# Altium footprint library Ant.PcbLib: 32 footprints (part 2 of 2)
Each footprint in its own frame and in the unit in brackets; x right, y up, seen from the top. Pads: shape width x height; smd on the part's side, far side on the other; paste and mask are expansions set on the pad; w line width, h text height; cw(c..) or ccw(c..) is an arc to the next point about the centre after c.
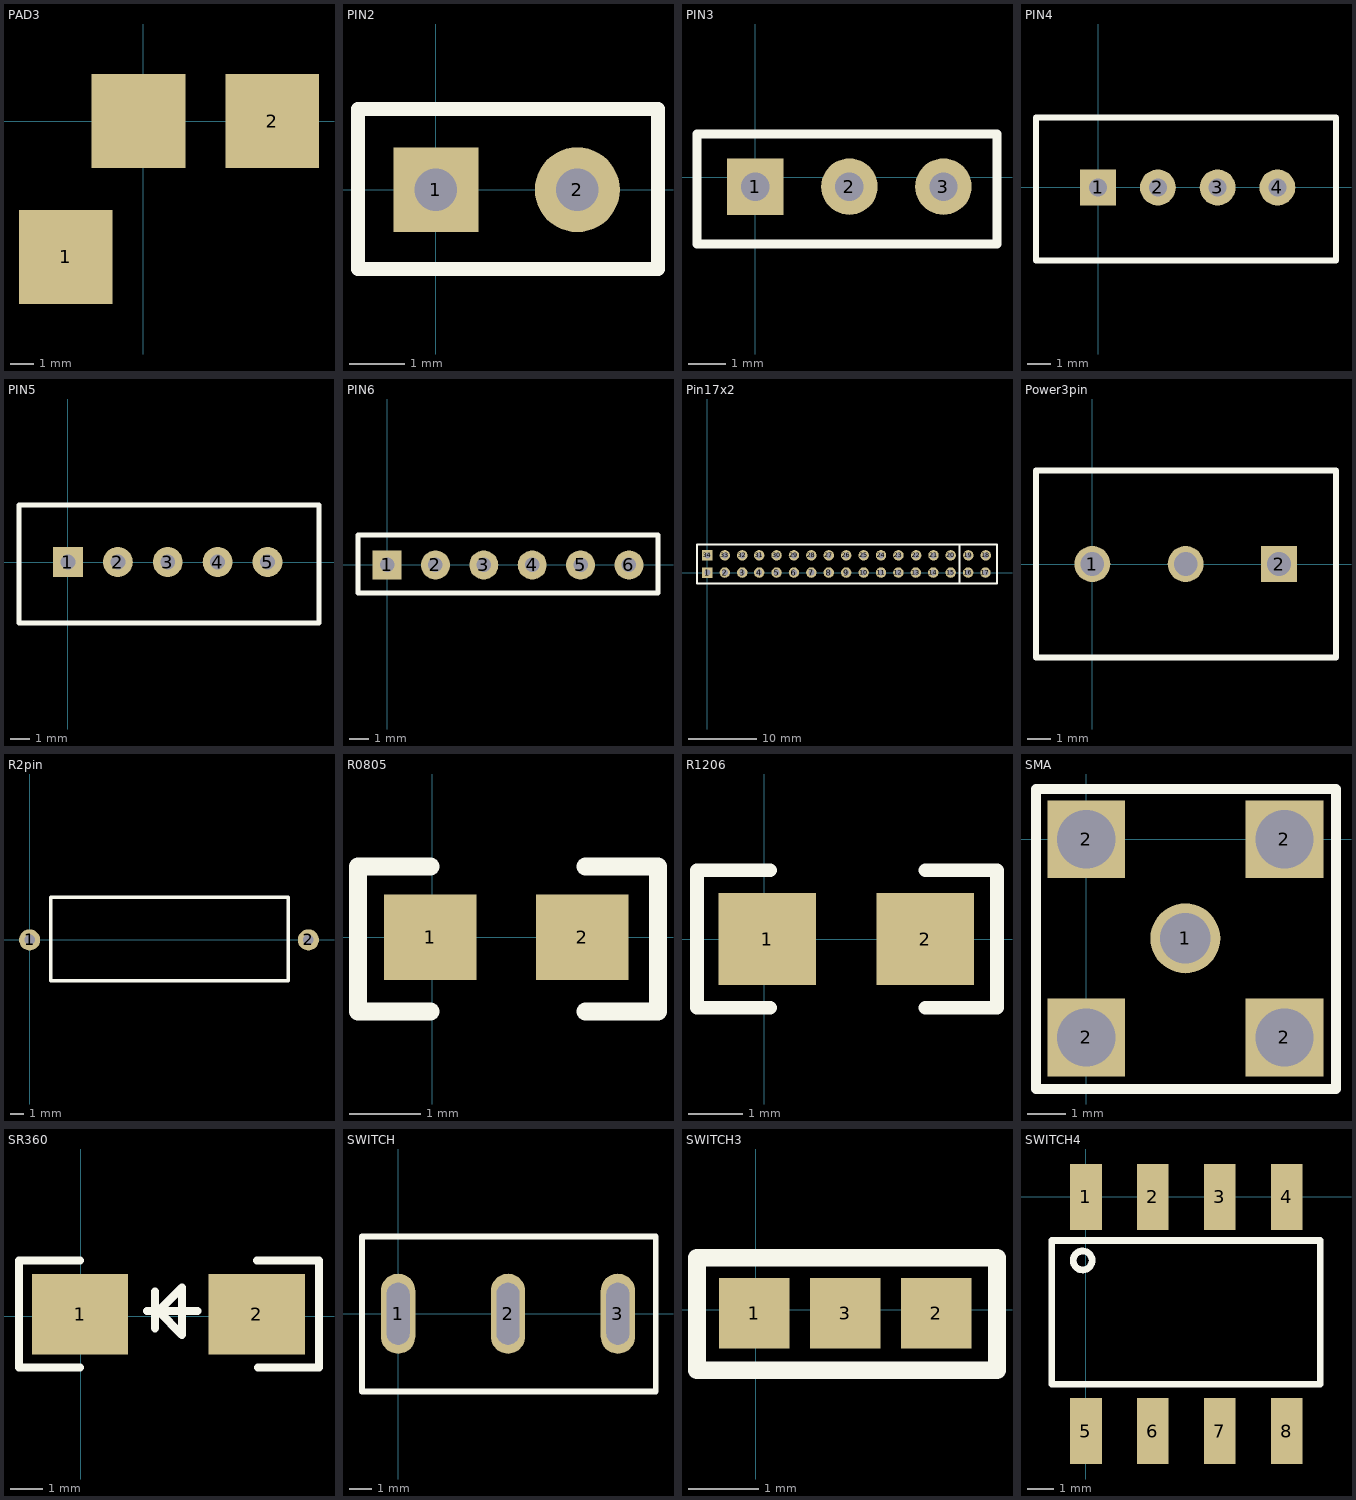
[diagram p1: the footprints below, top view; thin cyan lines are the x and y axes]

## PAD3 [mm]
pads (3):
  rect 4x4 smd: 1(-3.3,-5.8) 2(5.5,0) ""(-0.2,0)

## PIN2 [mil]
pads (2):
  rect 60x60 hole 30: 1(0,0)
  round 60 hole 30: 2(100,0)
Top Overlay:
  lines w10: -55,-56 157,-56 157,57 -55,57 -55,-56
3D body "HEADER 2.STEP": height 397.64, standoff -59.06, extent -49,-49 151,51

## PIN3 [mil]
pads (3):
  rect 60x60 hole 30: 1(0,-10)
  round 60 hole 30: 2(100,-10) 3(200,-10)
Top Overlay:
  lines w10: -62,-71 257,-71 257,46 -62,46 -62,-71
3D body "HEADER 3.STEP": height 397.64, standoff -59.06, extent -53,-63 247,37

## PIN4 [mil]
pads (4):
  rect 60x60 hole 30: 1(0,0)
  round 60 hole 30: 2(100,0) 3(200,0) 4(300,0)
Top Overlay:
  lines w10: -104,-122.05 398,-122.05 398,117 -104,117 -104,-122.05
3D body "CH2.54-4.STEP": height 275.59, standoff -133.86, extent -97.09,-127 391.09,113.16

## PIN5 [mil]
pads (5):
  rect 60x60 hole 30: 1(0,0)
  round 60 hole 30: 2(100,0) 3(200,0) 4(300,0) 5(400,0)
Top Overlay:
  lines w10: -98,-122.05 -98,114.17 503,114.17 503,-122.05 -98,-122.05
3D body "CH2.54-5.STEP": height 275.59, standoff -133.86, extent -91,-129.08 495.61,111.08

## PIN6 [mil]
pads (6):
  rect 60x60 hole 30: 1(0,0)
  round 60 hole 30: 2(100,0) 3(200,0) 4(300,0) 5(400,0) 6(500,0)
Top Overlay:
  lines w10: -60,-58 560,-58 560,62 -60,62 -60,-58
3D body "HEADER 6.STEP": height 397.64, standoff -59.06, extent -49,-48 551,52

## Pin17x2 [mm]
pads (34):
  rect 1.524x1.524 hole 0.85: 1(0,0) 34(0,2.5)
  round 1.524 hole 0.85: 2(2.54,0) 3(5.08,0) 4(7.54,0) 5(10.08,0) 6(12.62,0) 7(15.16,0) 8(17.7,0) 9(20.24,0) 10(22.78,0) 11(25.32,0) 12(27.86,0) 13(30.4,0) 14(32.94,0) 15(35.48,0) 16(38.02,0) 17(40.56,0) 18(40.6,2.5) 19(38.06,2.5) 20(35.48,2.5) 21(32.98,2.5) 22(30.44,2.5) 23(27.86,2.5) 24(25.32,2.5) 25(22.78,2.5) 26(20.24,2.5) 27(17.7,2.5) 28(15.16,2.5) 29(12.62,2.5) 30(10.08,2.5) 31(7.54,2.5) 32(5.08,2.5) 33(2.54,2.5)
Top Overlay:
  lines w0.254: 36.754,-1.575 36.754,4.064 ; -1.524,-1.6 -1.524,4.089 42.24,4.089 42.24,-1.6 -1.524,-1.6
3D body "HEADER 17X2.STEP": height 10.1, standoff -1.5, extent -1.245,-1.27 41.935,3.81

## Power3pin [mil]
pads (3):
  round 60 hole 39.37: 1(0,0) ""(155.91,0)
  rect 60x60 hole 39.37: 2(311.81,0)
Top Overlay:
  lines w10: -94,-155.91 407,-155.91 407,155.91 -94,155.91 -94,-155.91

## R2pin [mil]
pads (2):
  round 60 hole 30: 1(0,0) 2(787.4,0)
Top Overlay:
  lines w10: 60,120 60,-115 730,-115 730,120 60.71,120

## R0805 [mm]
pads (2):
  rect 1.3x1.2 smd: 1(-0.025,0) 2(2.108,0)
Top Overlay:
  lines w0.254: -0.025,-1.041 -1.041,-1.041 -1.041,0.991 -0.025,0.991 ; 2.159,-1.041 3.175,-1.041 3.175,0.991 2.159,0.991
3D body "电阻0805.STEP": height 0.76, standoff 0, extent -0.185,-0.649 2.115,0.701

## R1206 [mm]
pads (2):
  rect 1.8x1.7 smd: 1(0.051,0) 2(2.972,0)
Top Overlay:
  lines w0.254: 0.102,-1.27 -1.245,-1.27 -1.245,1.27 0.102,1.27 ; 2.972,-1.27 4.293,-1.27 4.293,1.27 2.972,1.27
3D body "RESC3216(1206).STEP": height 0.6, standoff 0, extent -0.025,-0.8 3.175,0.8

## SMA [mm]
pads (5):
  round 1.8 hole 1.3: 1(2.55,-2.55)
  rect 2x2 hole 1.5 square: 2(0,-5.1) 2(0,0) 2(5.1,-5.1) 2(5.1,0)
Top Overlay:
  lines w0.254: -1.295,-6.426 6.426,-6.426 6.426,1.295 -1.295,1.295 -1.295,-6.426

## SR360 [mm]
pads (2):
  rect 3x2.5 smd: 1(-0.025,0.051) 2(5.47,0.051)
Top Overlay:
  lines w0.254: -0.025,-1.597 -1.925,-1.597 -1.925,1.727 -0.025,1.727 ; 2.057,0.152 3.632,0.152 ; 2.286,0.152 2.413,0.152 ; 2.311,-0.381 2.311,0.762 ; 5.486,1.727 7.386,1.727 ; 5.512,-1.6 7.412,-1.6 7.412,1.724 ; 2.413,0.152 3.15,0.889 3.15,-0.584 2.413,0.152
3D body "DO214 SMA.STEP": height 1.14, standoff -1.14, extent -0.178,-1.422 5.309,1.372

## SWITCH [mm]
pads (3):
  oval 1.5x3.5 hole 1 slot 2.7 at 90 deg: 1(0,0) 2(4.8,0) 3(9.6,0)
Top Overlay:
  lines w0.254: -1.575,-3.404 -1.575,3.378 11.252,3.378 11.252,-3.404 -1.575,-3.404
3D body "SW-SLB12814.STEP": height 9.65, standoff -2.6, extent -2.25,-3.124 11.75,3.076

## SWITCH3 [mm]
pads (3):
  rect 1x1 smd: 1(-0.025,-0.051) 2(2.565,-0.051) 3(1.27,-0.051)
Top Overlay:
  lines w0.254: -0.838,-0.864 3.429,-0.864 3.429,0.737 -0.838,0.737 -0.838,-0.864

## SWITCH4 [mm]
pads (8):
  rect 1.2x2.5 smd: 1(0,0) 2(2.54,0) 3(5.08,0) 4(7.62,0) 5(0,-8.89) 6(2.54,-8.89) 7(5.08,-8.89) 8(7.62,-8.89)
Top Overlay:
  circle w0.254: c-0.127,-2.413 r0.359
  lines w0.254: -1.295,-7.112 8.89,-7.112 8.89,-1.651 -1.295,-1.651 -1.295,-7.112